# Altium footprint library esd_project.PcbLib: 3 footprints
Each footprint in its own frame and in the unit in brackets; x right, y up, seen from the top. Pads: shape width x height; smd on the part's side, far side on the other; paste and mask are expansions set on the pad; w line width, h text height; cw(c..) or ccw(c..) is an arc to the next point about the centre after c.
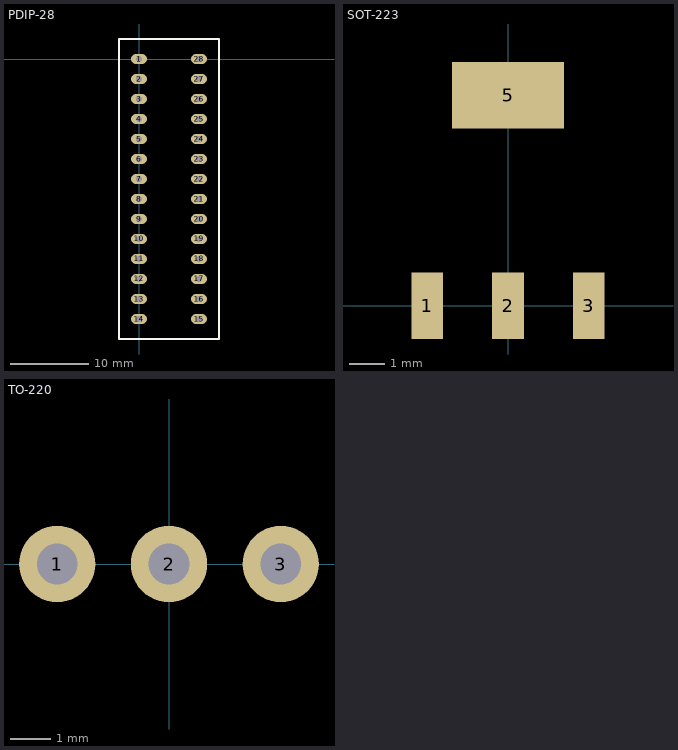
[diagram p0: the footprints below, top view; thin cyan lines are the x and y axes]

## PDIP-28 [mil]
pads (28):
  rrect100% 80x50 hole 30: 1(0,0) 2(0,-100) 3(0,-200) 4(0,-300) 5(0,-400) 6(0,-500) 7(0,-600) 8(0,-700) 9(0,-800) 10(0,-900) 11(0,-1000) 12(0,-1100) 13(0,-1200) 14(0,-1300) 15(300,-1300) 16(300,-1200) 17(300,-1100) 18(300,-1000) 19(300,-900) 20(300,-800) 21(300,-700) 22(300,-600) 23(300,-500) 24(300,-400) 25(300,-300) 26(300,-200) 27(300,-100) 28(300,0)
Top Overlay:
  lines w10: -100,-1400 -100,100 400,100 400,-1300 400,-1400 -100,-1400
3D body "10221.SLDPRT": height 200, standoff -118.9, extent -46.85,-1349.99 346.85,50.01

## SOT-223 [mm]
pads (4):
  rect 0.9x1.9 smd: 1(-2.3,0) 2(0,0) 3(2.3,0)
  rect 3.2x1.9 smd: 5(0,6)
3D body "User Library-SOT223-3.step": height 1.7, standoff 0, extent -3.25,-0.5 3.25,6.5

## TO-220 [mil]
pads (3):
  round 75 hole 40: 1(-110,0) 2(0,0) 3(110,0)
3D body "User Library-L7805.step": height 848.14, standoff -286.31, extent -200,-62.58 200,102.58